# Altium footprint library MODULE_ESP32-DEVKITC-32D.PcbLib: 1 footprints
Each footprint in its own frame and in the unit in brackets; x right, y up, seen from the top. Pads: shape width x height; smd on the part's side, far side on the other; paste and mask are expansions set on the pad; w line width, h text height; cw(c..) or ccw(c..) is an arc to the next point about the centre after c.
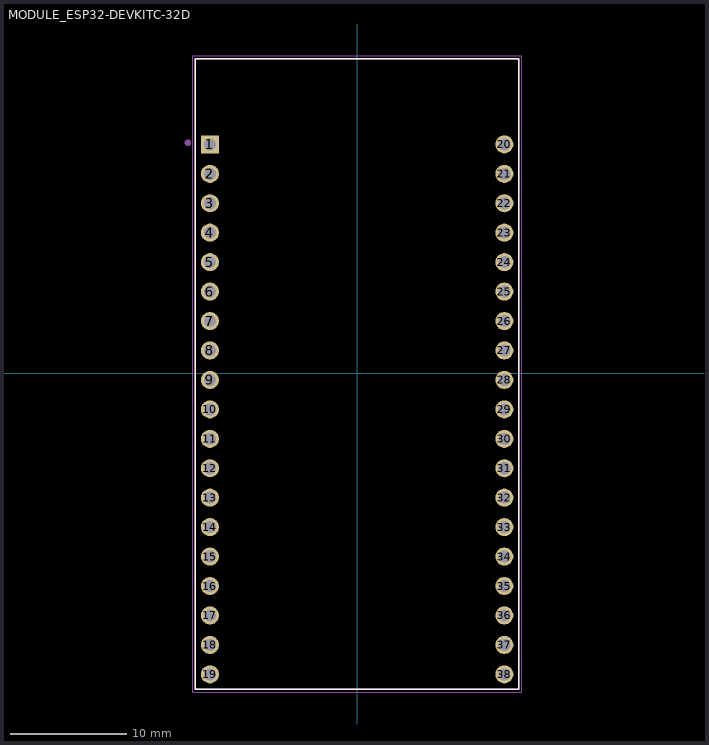
[diagram p0: the footprint, top view; thin cyan lines are the x and y axes]

## MODULE_ESP32-DEVKITC-32D [mm]
pads (38):
  rect 1.56x1.56 hole 1.04: 1(-12.7,19.76)
  round 1.56 hole 1.04: 2(-12.7,17.22) 3(-12.7,14.68) 4(-12.7,12.14) 5(-12.7,9.6) 6(-12.7,7.06) 7(-12.7,4.52) 8(-12.7,1.98) 9(-12.7,-0.56) 10(-12.7,-3.1) 11(-12.7,-5.64) 12(-12.7,-8.18) 13(-12.7,-10.72) 14(-12.7,-13.26) 15(-12.7,-15.8) 16(-12.7,-18.34) 17(-12.7,-20.88) 18(-12.7,-23.42) 19(-12.7,-25.96) 20(12.7,19.76) 21(12.7,17.22) 22(12.7,14.68) 23(12.7,12.14) 24(12.7,9.6) 25(12.7,7.06) 26(12.7,4.52) 27(12.7,1.98) 28(12.7,-0.56) 29(12.7,-3.1) 30(12.7,-5.64) 31(12.7,-8.18) 32(12.7,-10.72) 33(12.7,-13.26) 34(12.7,-15.8) 35(12.7,-18.34) 36(12.7,-20.88) 37(12.7,-23.42) 38(12.7,-25.96)
Top Overlay:
  lines w0.127: -13.95,-27.25 -13.95,27.15 13.95,27.15 13.95,-27.25 -13.95,-27.25
Mechanical 13:
  circle w0.28: c-14.6,19.9 r0.14
  lines w0.127: -13.95,-27.25 13.95,-27.25 13.95,27.15 -13.95,27.15 -13.95,-27.25
Mechanical 15:
  lines w0.05: -14.2,-27.5 14.2,-27.5 14.2,27.4 -14.2,27.4 -14.2,-27.5
3D body "step_temp.STEP": height 3.25, standoff -9.44, extent -13.97,-27.922 13.97,27.178